# EAGLE library part CLOCK-MODUL (library ArduMower_RaspberryPi_Power_Switch)
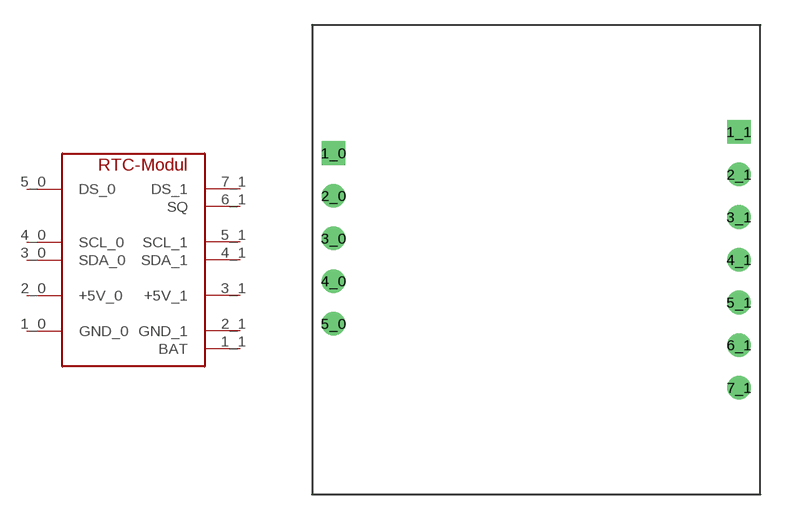
[diagram p2: symbol with the pads of CLOCK-MODUL; footprint CLOCK-MODUL]

Designator prefix MD

## CLOCK-MODUL  [CLOCK-MODUL]
1_0  GND_0  pwr
1_1  BAT  pwr
2_0  +5V_0  pwr
2_1  GND_1  pwr
3_0  SDA_0
3_1  +5V_1  pwr
4_0  SCL_0
4_1  SDA_1
5_0  DS_0
5_1  SCL_1
6_1  SQ  out
7_1  DS_1

## Footprint CLOCK-MODUL (pad centres in mm)
drill 0.9 square: 1_0 1.27,20.32; 1_1 25.4,21.59
drill 0.9: 2_0 1.27,17.78; 2_1 25.4,19.05; 3_0 1.27,15.24; 3_1 25.4,16.51; 4_0 1.27,12.7; 4_1 25.4,13.97; 5_0 1.27,10.16; 5_1 25.4,11.43; 6_1 25.4,8.89; 7_1 25.4,6.35